# Altium schematic symbol library 694108301002.SchLib: 1 symbol
Pins are listed as number, name and electrical type; pins without a type are passive.

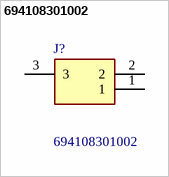
[diagram p0: symbol 694108301002]

## 694108301002
designator J?
WR-DCPJ_THT_R/A_Plastic DCPowerJack_THT_R/A_Plastic_CenterPin_ 2.5; Manufacturer_Name: Wurth Elektronik; Geometry.Height: 11mm; Mouser Part Number: 710-694108301002; Mouser Price/Stock: https://www.mouser.co.uk/ProductDetail/Wurth-Elektronik/694108301002?qs=a9WhcLg8qCwpBR6w1flhOw%3D%3D; Manufacturer_Part_Number: 694108301002; Datasheet Link: https://www.we-online.com/components/products/download/3D_694108301002+%28rev1%29.pdf
footprint 694108301002
pins: 1, 2, 3